# Altium footprint library AIRZAI_LID_BD_REVA.PcbLib: 60 footprints (part 3 of 4)
Each footprint in its own frame and in the unit in brackets; x right, y up, seen from the top. Pads: shape width x height; smd on the part's side, far side on the other; paste and mask are expansions set on the pad; w line width, h text height; cw(c..) or ccw(c..) is an arc to the next point about the centre after c.
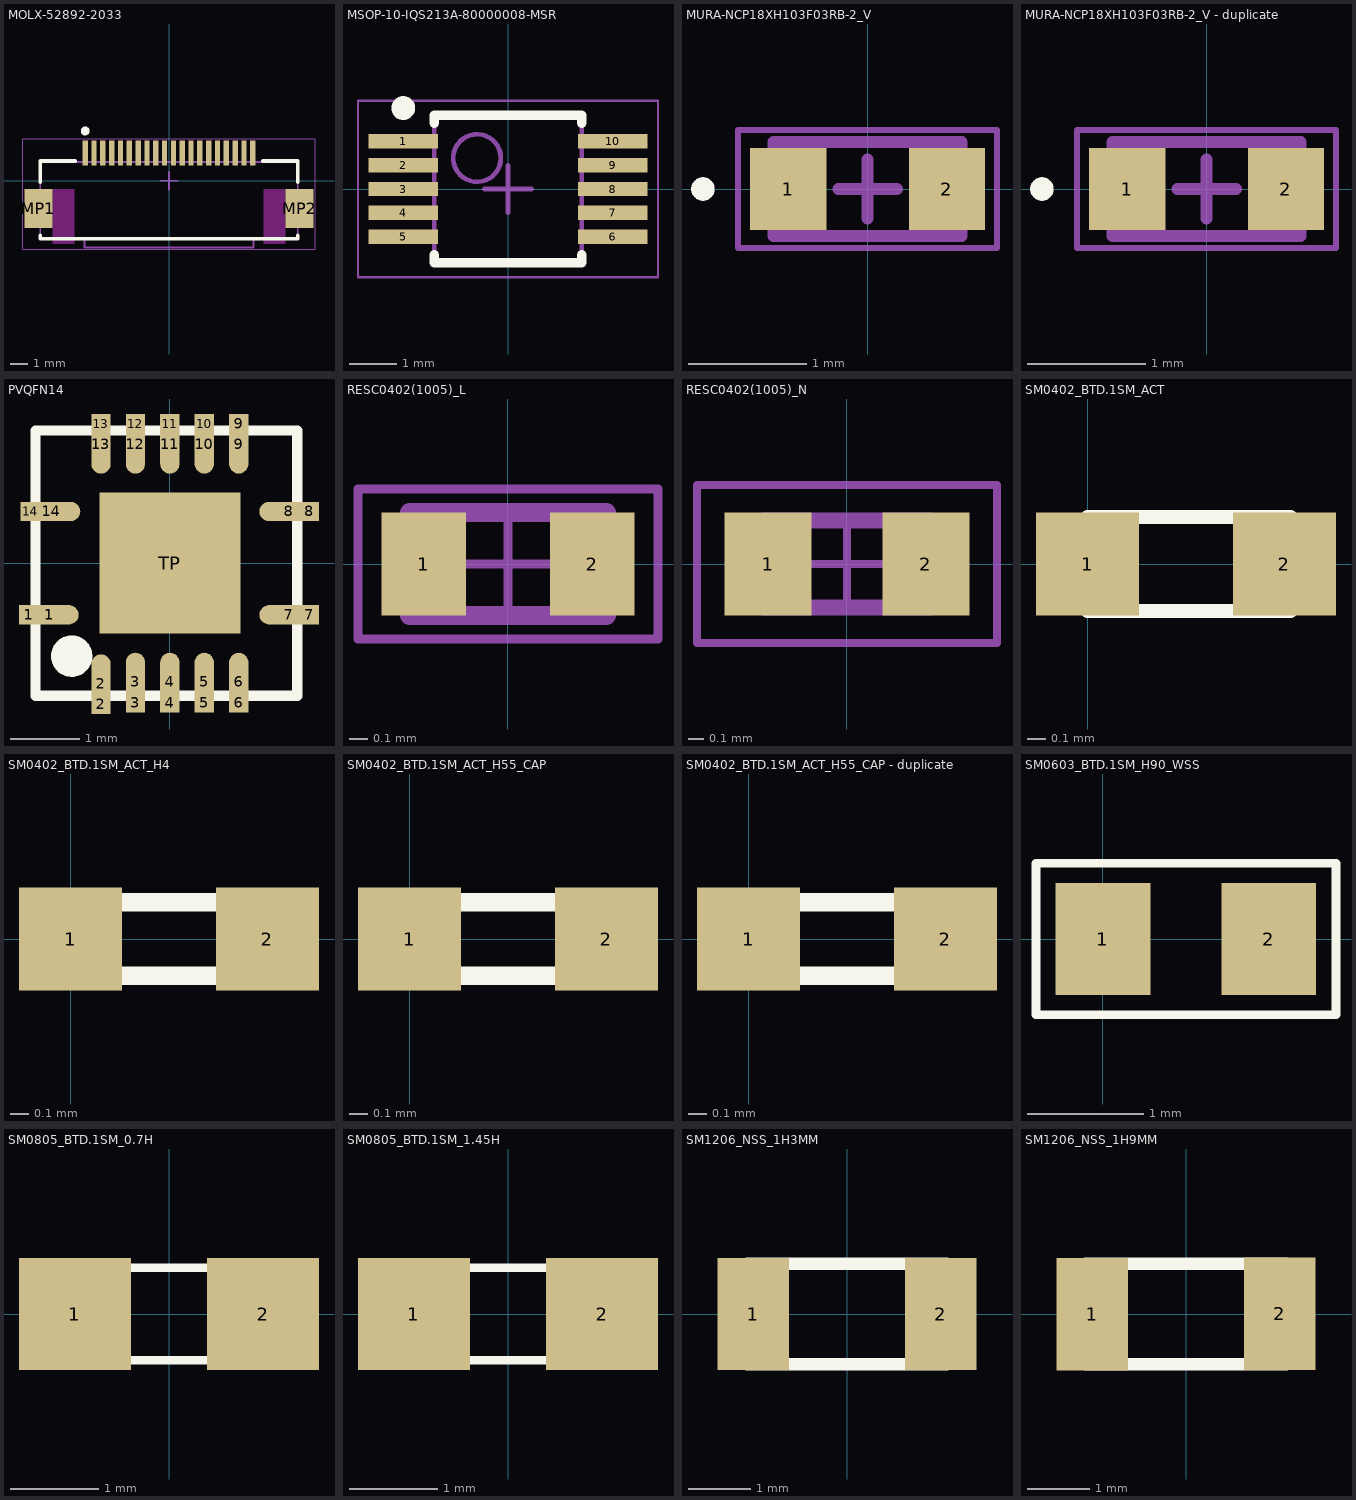
[diagram p2: the footprints below, top view; thin cyan lines are the x and y axes]

## MOLX-52892-2033 [mm] "FPC Connector, 20-Leads, Right Angle, Pitch 0.5 mm, Mated Height 2.0 mm, SMT"
height 2.052
pads (22):
  rect 0.3x1.4 smd: 1(-4.75,1.575) 2(-4.25,1.575) 3(-3.75,1.575) 4(-3.25,1.575) 5(-2.75,1.575) 6(-2.25,1.575) 7(-1.75,1.575) 8(-1.25,1.575) 9(-0.75,1.575) 10(-0.25,1.575) 11(0.25,1.575) 12(0.75,1.575) 13(1.25,1.575) 14(1.75,1.575) 15(2.25,1.575) 16(2.75,1.575) 17(3.25,1.575) 18(3.75,1.575) 19(4.25,1.575) 20(4.75,1.575)
  rect 1.6x2.2 smd: MP1(-7.4,-1.575) MP2(7.4,-1.575)
Top Overlay:
  circle w0.25: c-4.75,2.825 r0.125
  lines w0.2: -7.3,-3.075 -7.3,-3.275 7.3,-3.275 7.3,-3.075 ; -7.3,-0.075 -7.3,1.125 -5.3,1.125 ; 5.3,1.125 7.3,1.125 7.3,-0.075
Keep-Out Layer:
  rectangle: -6.6,-3.575 -5.35,-0.475
  rectangle: 5.35,-3.575 6.6,-0.475
Mechanical 13:
  lines w0.1: -7.3,-3.275 -4.785,-3.275 -4.785,-3.775 4.785,-3.775 4.785,-3.275 7.3,-3.275 7.3,1.125 5.5,1.125 5.5,1.075 -5.5,1.075 -5.5,1.125 -7.3,1.125 -7.3,-3.275
Mechanical 15:
  lines w0.05: -8.3,-3.875 -8.3,2.375 8.3,2.375 8.3,-3.875 -8.3,-3.875
  lines w0.1: -0.5,0 0.5,0 ; 0,-0.5 0,0.5
3D body "528922033.stp": height 2.05, standoff 0.01, extent -7.7,-3.775 7.7,1.725

## MSOP-10-IQS213A-80000008-MSR [mm]
height 0.96
pads (10):
  rect 1.45x0.3 smd mask+0.072: 1(-2.2,1) 2(-2.2,0.5) 3(-2.2,0) 4(-2.2,-0.5) 5(-2.2,-1) 6(2.2,-1) 7(2.2,-0.5) 8(2.2,0) 9(2.2,0.5) 10(2.2,1)
Top Overlay:
  circle w0.25: c-2.2,1.7 r0.125
  lines w0.2: -1.55,-1.378 -1.55,-1.55 1.55,-1.55 1.55,-1.378 ; -1.55,1.378 -1.55,1.55 1.55,1.55 1.55,1.378
Mechanical 13:
  circle w0.1: c-0.65,0.65 r0.5
  lines w0.1: -1.55,-1.55 1.55,-1.55 1.55,1.55 -1.55,1.55 -1.55,-1.55
Mechanical 15:
  lines w0.05: -3.15,-1.85 3.15,-1.85 3.15,1.85 -3.15,1.85 -3.15,-1.85
  lines w0.1: -0.5,0 0.5,0 ; 0,-0.5 0,0.5
3D body "MSOP-10-IQS213A-80000008-MSR.step": height 0.96, standoff 0, extent -2.45,-1.6 2.45,1.6

## MURA-NCP18XH103F03RB-2_V [mm] "Chip, 2-Leads, Body 1.6x0.8mm"
height 0.8
pads (2):
  rect 0.65x0.7 smd: 1(-0.675,0) 2(0.675,0)
Top Overlay:
  circle w0.1: c-1.4,0 r0.05
Mechanical 13:
  lines w0.1: -0.8,-0.4 0.8,-0.4 0.8,0.4 -0.8,0.4 -0.8,-0.4
Mechanical 15:
  lines w0.05: -1.1,-0.5 1.1,-0.5 1.1,0.5 -1.1,0.5 -1.1,-0.5
  lines w0.1: -0.25,0 0.25,0 ; 0,-0.25 0,0.25
3D body: height 0.8, standoff 0, extent -0.8,-0.4 0.8,0.4

## MURA-NCP18XH103F03RB-2_V - duplicate [mm] "Chip, 2-Leads, Body 1.6x0.8mm"
height 0.8
pads (2):
  rect 0.65x0.7 smd: 1(-0.675,0) 2(0.675,0)
Top Overlay:
  circle w0.1: c-1.4,0 r0.05
Mechanical 13:
  lines w0.1: -0.8,-0.4 0.8,-0.4 0.8,0.4 -0.8,0.4 -0.8,-0.4
Mechanical 15:
  lines w0.05: -1.1,-0.5 1.1,-0.5 1.1,0.5 -1.1,0.5 -1.1,-0.5
  lines w0.1: -0.25,0 0.25,0 ; 0,-0.25 0,0.25
3D body: height 0.8, standoff 0, extent -0.8,-0.4 0.8,0.4

## PVQFN14 [mm] "PVQFN 14PIN 3.65X3.65"
height 1
pads (29):
  rect 0.28x0.28 smd paste-0.025 mask+0.07: 1(-2.05,-0.75) 2(-1,-2.05) 3(-0.5,-2.025) 4(0,-2.025) 5(0.5,-2.025) 6(1,-2.025) 7(2.025,-0.75) 8(2.025,0.75) 9(1,2.025) 10(0.5,2.025) 11(0,2.025) 12(-0.5,2.025) 13(-1,2.025) 14(-2.025,0.75)
  rrect100% 0.85x0.28 smd paste-0.025 mask+0.07: 1(-1.75,-0.75) 7(1.725,-0.75) 8(1.725,0.75) 14(-1.725,0.75)
  rrect100% 0.28x0.85 smd paste-0.025 mask+0.07: 2(-1,-1.75) 3(-0.5,-1.725) 4(0,-1.725) 5(0.5,-1.725) 6(1,-1.725) 9(1,1.725) 10(0.5,1.725) 11(0,1.725) 12(-0.5,1.725) 13(-1,1.725)
  rect 2.05x2.05 smd paste-5 mask+0.07: TP(0,0)
Top Overlay:
  circle w0.3: c-1.425,-1.35 r0.15
  lines w0.15: -1.95,-1.925 1.85,-1.925 1.85,1.925 -1.95,1.925 -1.95,-1.925
Top Paste:
  rectangle: -0.95,-0.95 -0.15,-0.15
  rectangle: 0.15,-0.95 0.95,-0.15
  rectangle: 0.15,0.15 0.95,0.95
  rectangle: -0.95,0.15 -0.15,0.95
3D body: height 1, standoff 0, extent -1.825,-1.825 1.75,1.825

## RESC0402(1005)_L [mm] "Chip Resistor, Body 1.0x0.5mm, IPC High Density"
height 0.4
pads (2):
  rect 0.45x0.55 smd: 1(-0.45,0) 2(0.45,0)
Mechanical 13:
  lines w0.1: -0.525,-0.275 -0.525,0.275 0.525,0.275 0.525,-0.275 -0.525,-0.275
Mechanical 15:
  lines w0.05: -0.275,0 0.275,0 ; 0,-0.275 0,0.275 ; -0.8,-0.4 -0.8,0.4 0.8,0.4 0.8,-0.4 -0.8,-0.4
3D body: height 0.4, standoff 0, extent -0.525,-0.275 -0.3,0.275
3D body: height 0.4, standoff 0, extent -0.3,-0.275 0.3,0.275
3D body: height 0.4, standoff 0, extent 0.3,-0.275 0.525,0.275

## RESC0402(1005)_N [mm] "Chip Resistor, Body 1.0x0.5mm, IPC Medium Density"
height 0.4
pads (2):
  rect 0.55x0.65 smd: 1(-0.5,0) 2(0.5,0)
Mechanical 13:
  lines w0.1: -0.525,-0.275 -0.525,0.275 0.525,0.275 0.525,-0.275 -0.525,-0.275
Mechanical 15:
  lines w0.05: -0.275,0 0.275,0 ; 0,-0.275 0,0.275 ; -0.95,-0.5 -0.95,0.5 0.95,0.5 0.95,-0.5 -0.95,-0.5
3D body: height 0.4, standoff 0, extent 0.3,-0.275 0.525,0.275
3D body: height 0.4, standoff 0, extent -0.3,-0.275 0.3,0.275
3D body: height 0.4, standoff 0, extent -0.525,-0.275 -0.3,0.275

## SM0402_BTD.1SM_ACT [mil]
height 275.59
pads (2):
  rect 22x22 smd mask+4: 1(0,0) 2(42,0)
Top Overlay:
  lines w2.99: 0,-10 43.27,-10 43.27,10 0,10 0,-10
3D body: height 23.62, standoff 0, extent -0.98,-9.84 44.29,9.84

## SM0402_BTD.1SM_ACT_H4 [mil]
height 15.75
pads (2):
  rect 22x22 smd mask+4: 1(0,0) 2(42,0)
Top Overlay:
  lines w3.94: 0.98,-7.87 42.32,-7.87 42.32,7.87 0.98,7.87 0.98,-7.87
3D body: height 19.68, standoff 0, extent -0.98,-9.84 44.29,9.84

## SM0402_BTD.1SM_ACT_H55_CAP [mil]
height 21.65
pads (2):
  rect 22x22 smd mask+2.76: 1(0,0) 2(42,0)
Top Overlay:
  lines w3.94: 0.98,-7.87 0.98,7.87 42.32,7.87 42.32,-7.87 0.98,-7.87
3D body: height 25.59, standoff 0, extent -0.98,-9.84 44.29,9.84

## SM0402_BTD.1SM_ACT_H55_CAP - duplicate [mil]
height 21.65
pads (2):
  rect 22x22 smd mask+2.76: 1(0,0) 2(42,0)
Top Overlay:
  lines w3.94: 0.98,-7.87 42.32,-7.87 42.32,7.87 0.98,7.87 0.98,-7.87
3D body: height 25.59, standoff 0, extent -0.98,-9.84 44.29,9.84

## SM0603_BTD.1SM_H90_WSS [mil]
height 35.43
pads (2):
  rect 32x38 smd mask+4: 1(0,0) 2(56,0)
Top Overlay:
  lines w3: -22.64,-25.59 78.74,-25.59 78.74,25.59 -22.64,25.59 -22.64,-25.59
3D body: height 35.43, standoff 0, extent -3.94,-16.73 59.06,16.73

## SM0805_BTD.1SM_0.7H [mil]
height 27.56
pads (2):
  rect 50x50 smd: 1(-42,0) 2(42,0)
Top Overlay:
  lines w3.94: -41.34,-20.67 -41.34,20.67 41.34,20.67 41.34,-20.67 -41.34,-20.67
3D body: height 29.53, standoff 0, extent -43.31,-22.64 43.31,22.64

## SM0805_BTD.1SM_1.45H [mil] "CAP CER 16V 10% X7R 0805"
height 57.09
pads (2):
  rect 50x50 smd: 1(-42,0) 2(42,0)
Top Overlay:
  lines w3.94: -41.34,-20.67 -41.34,20.67 41.34,20.67 41.34,-20.67 -41.34,-20.67
3D body: height 57.09, standoff 0, extent -43.31,-22.64 43.31,22.64

## SM1206_NSS_1H3MM [mm] "CAP_1206_1.3MM_HIGH"
height 1.3
pads (2):
  rect 1.15x1.8 smd: 1(-1.5,0) 2(1.5,0)
Top Overlay:
  lines w0.15: -1.625,-0.825 -1.625,0.825 1.625,0.825 1.625,-0.825 -1.625,-0.825
  lines w0.2: -1.6,-0.8 1.6,-0.8 1.6,0.8 -1.6,0.8 -1.6,-0.8
3D body: height 1.3, standoff 0.1, extent -1.7,-0.9 1.7,0.9

## SM1206_NSS_1H9MM [mm] "CAP_1206_1.9MM_HIGH"
height 1.9
pads (2):
  rect 1.15x1.8 smd: 1(-1.5,0) 2(1.5,0)
Top Overlay:
  lines w0.2: -1.6,-0.8 1.6,-0.8 1.6,0.8 -1.6,0.8 -1.6,-0.8
3D body: height 1.9, standoff 0, extent -1.7,-0.9 1.7,0.9